# Altium schematic symbol library DIO-Zener.SchLib: 1 symbol
Pins are listed as number, name and electrical type; pins without a type are passive.

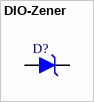
[diagram p0: symbol DIO-Zener]

## DIO-Zener
designator D?  (value not drawn)
pins: A, K